# Altium schematic symbol library SnapEDAsch.SchLib: 1 symbol
Pins are listed as number, name and electrical type; pins without a type are passive.

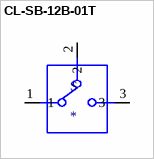
[diagram p0: symbol CL-SB-12B-01T]

## CL-SB-12B-01T
designator S
Slide Switch SPDT Surface Mount; MF: Nidec Copal; MP: CL-SB-12B-01T; SnapEDA_Link: https://www.snapeda.com/parts/CL-SB-12B-01T/Nidec%20Copal%20Electronics/view-part/2372351/?ref=snap; Availability: Unavailable; Value: *; Package: None; Price: None
footprint CL-SB-12B
pins: 1 (io), 2 (io), 3 (io)